# EAGLE library part LTC6912 (library IC)
Linear Tech LTC6912 Dual Programmable Gain Amplifiers with Serial Digital Interface
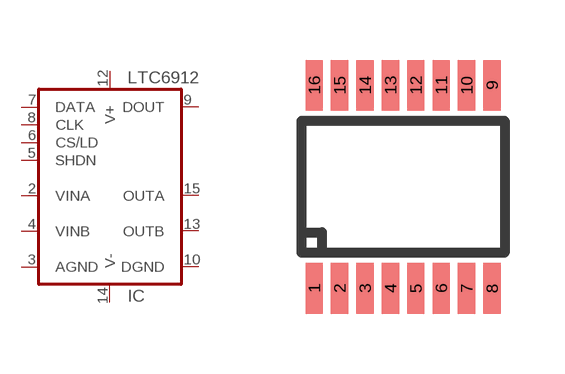
[diagram p98: symbol with the pads of SSOP16-LTCGN; footprint SSOP16-LTCGN]

Designator prefix IC

## LTC6912  [SSOP16-LTCGN]
2  VINA
3  AGND  pwr
4  VINB
5  SHDN
6  CS/LD
7  DATA
8  CLK
9  DOUT  out
10  DGND  pwr
12  V+  pwr
13  OUTB  out
14  V-  pwr
15  OUTA  out

## Footprint SSOP16-LTCGN (pad centres in mm)
Linear Technology GN - SSOP16
smd 0.432 x 1.27: 1 -2.223,-2.54; 2 -1.587,-2.54; 3 -0.953,-2.54; 4 -0.318,-2.54; 5 0.318,-2.54; 6 0.953,-2.54; 7 1.587,-2.54; 8 2.223,-2.54; 9 2.223,2.54; 10 1.587,2.54; 11 0.953,2.54; 12 0.318,2.54; 13 -0.318,2.54; 14 -0.953,2.54; 15 -1.587,2.54; 16 -2.223,2.54